# Altium footprint library IC_LQFP.PcbLib: 17 footprints (part 2 of 2)
Each footprint in its own frame and in the unit in brackets; x right, y up, seen from the top. Pads: shape width x height; smd on the part's side, far side on the other; paste and mask are expansions set on the pad; w line width, h text height; cw(c..) or ccw(c..) is an arc to the next point about the centre after c.
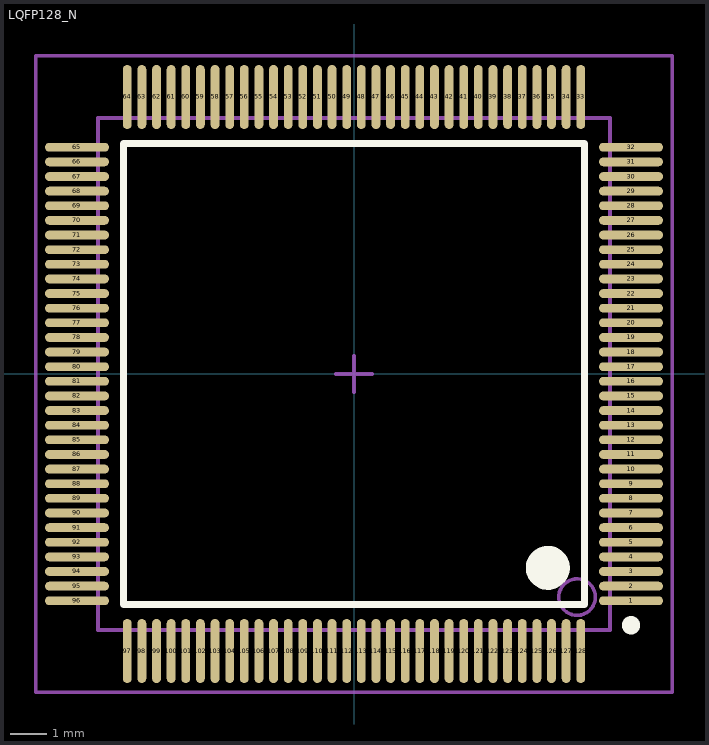
[diagram p1: the footprint, top view; thin cyan lines are the x and y axes]

## LQFP128_N [mm] "Thin QFP, 128-Leads, Body 14x14mm, Pitch 0.4mm, IPC Medium Density"
height 1.6
pads (128):
  oval 1.75x0.24 smd: 1(7.575,-6.2) 2(7.575,-5.8) 3(7.575,-5.4) 4(7.575,-5) 5(7.575,-4.6) 6(7.575,-4.2) 7(7.575,-3.8) 8(7.575,-3.4) 9(7.575,-3) 10(7.575,-2.6) 11(7.575,-2.2) 12(7.575,-1.8) 13(7.575,-1.4) 14(7.575,-1) 15(7.575,-0.6) 16(7.575,-0.2) 17(7.575,0.2) 18(7.575,0.6) 19(7.575,1) 20(7.575,1.4) 21(7.575,1.8) 22(7.575,2.2) 23(7.575,2.6) 24(7.575,3) 25(7.575,3.4) 26(7.575,3.8) 27(7.575,4.2) 28(7.575,4.6) 29(7.575,5) 30(7.575,5.4) 31(7.575,5.8) 32(7.575,6.2) 65(-7.575,6.2) 66(-7.575,5.8) 67(-7.575,5.4) 68(-7.575,5) 69(-7.575,4.6) 70(-7.575,4.2) 71(-7.575,3.8) 72(-7.575,3.4) 73(-7.575,3) 74(-7.575,2.6) 75(-7.575,2.2) 76(-7.575,1.8) 77(-7.575,1.4) 78(-7.575,1) 79(-7.575,0.6) 80(-7.575,0.2) 81(-7.575,-0.2) 82(-7.575,-0.6) 83(-7.575,-1) 84(-7.575,-1.4) 85(-7.575,-1.8) 86(-7.575,-2.2) 87(-7.575,-2.6) 88(-7.575,-3) 89(-7.575,-3.4) 90(-7.575,-3.8) 91(-7.575,-4.2) 92(-7.575,-4.6) 93(-7.575,-5) 94(-7.575,-5.4) 95(-7.575,-5.8) 96(-7.575,-6.2)
  oval 0.24x1.75 smd: 33(6.2,7.575) 34(5.8,7.575) 35(5.4,7.575) 36(5,7.575) 37(4.6,7.575) 38(4.2,7.575) 39(3.8,7.575) 40(3.4,7.575) 41(3,7.575) 42(2.6,7.575) 43(2.2,7.575) 44(1.8,7.575) 45(1.4,7.575) 46(1,7.575) 47(0.6,7.575) 48(0.2,7.575) 49(-0.2,7.575) 50(-0.6,7.575) 51(-1,7.575) 52(-1.4,7.575) 53(-1.8,7.575) 54(-2.2,7.575) 55(-2.6,7.575) 56(-3,7.575) 57(-3.4,7.575) 58(-3.8,7.575) 59(-4.2,7.575) 60(-4.6,7.575) 61(-5,7.575) 62(-5.4,7.575) 63(-5.8,7.575) 64(-6.2,7.575) 97(-6.2,-7.575) 98(-5.8,-7.575) 99(-5.4,-7.575) 100(-5,-7.575) 101(-4.6,-7.575) 102(-4.2,-7.575) 103(-3.8,-7.575) 104(-3.4,-7.575) 105(-3,-7.575) 106(-2.6,-7.575) 107(-2.2,-7.575) 108(-1.8,-7.575) 109(-1.4,-7.575) 110(-1,-7.575) 111(-0.6,-7.575) 112(-0.2,-7.575) 113(0.2,-7.575) 114(0.6,-7.575) 115(1,-7.575) 116(1.4,-7.575) 117(1.8,-7.575) 118(2.2,-7.575) 119(2.6,-7.575) 120(3,-7.575) 121(3.4,-7.575) 122(3.8,-7.575) 123(4.2,-7.575) 124(4.6,-7.575) 125(5,-7.575) 126(5.4,-7.575) 127(5.8,-7.575) 128(6.2,-7.575)
Top Overlay:
  circle w0.25: c7.575,-6.87 r0.125
  circle w0.6: c5.3,-5.3 r0.3
  lines w0.2: -6.3,-6.3 -6.3,6.3 6.3,6.3 6.3,-6.3 -6.3,-6.3
Mechanical 13:
  circle w0.1: c6.1,-6.1 r0.5
  lines w0.1: -7,-7 -7,7 7,7 7,-7 -7,-7
Mechanical 15:
  lines w0.1: -0.5,0 0.5,0 ; 0,-0.5 0,0.5 ; -8.7,-8.7 -8.7,8.7 8.7,8.7 8.7,-8.7 -8.7,-8.7
3D body: height 1.6, standoff 0, extent -7,-7 7,7